# Altium schematic symbol library op07.SCHLIB: 1 symbol
Pins are listed as number, name and electrical type; pins without a type are passive.

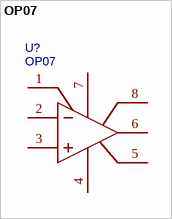
[diagram p0: symbol OP07]

## OP07
designator U?
BOM_Manufacturer: Hangzhou Ruimeng Tech; Contributor: LCSC; BOM_Supplier: LCSC; BOM_Supplier Part: C1508997; BOM_Manufacturer Part: OP07; BOM_JLCPCB Part Class: Extended Part; spicePre: U; spiceSymbolName: OP07
footprint SOP-8_L4.9-W3.9-P1.27-LS6.0-BL (Footprint not found)
pins: 1 VOS TRIM, 2 IN-, 3 IN+, 4 V-, 5 NC, 6 OUT, 7 V+, 8 VOS TRIM